# EAGLE library part LTC2935 (library linear-technology)
Ultra-Low Power Supervisor with Power-Fail Output, Selectable Thresholds
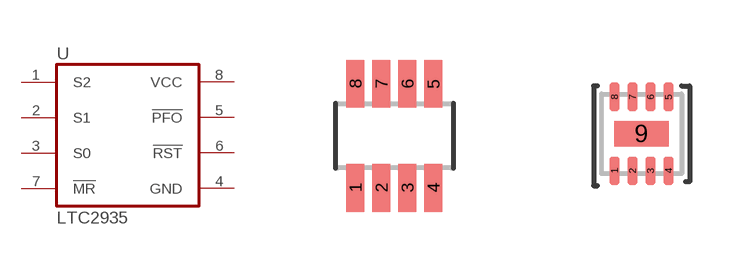
[diagram p56: symbol with the pads of SOT23-8; footprints SOT23-8, DFN8-DC]

Designator prefix U

## LTC2935TS8 (P1I: o)  [SOT23-8]
1  S2  in
2  S1  in
3  S0  in
4  GND  pwr
5  !PFO!  out
6  !RST!  out
7  !MR!  pas
8  VCC  pwr

## LTC2935DC (P1I: o)  [DFN8-DC]
1  VCC  pwr
2  !MR!  pas
3  !RST!  out
4  !PFO!  out
5  GND  pwr
6  S0  in
7  S1  in
8  S2  in
9  GND  pwr

## Footprint SOT23-8 (pad centres in mm)
SOT-23 - DCN 0.65 mm pitch
smd 0.45 x 1.2: 1 -0.975,-1.3; 2 -0.325,-1.3; 3 0.325,-1.3; 4 0.975,-1.3; 5 0.975,1.3; 6 0.325,1.3; 7 -0.325,1.3; 8 -0.975,1.3

## Footprint DFN8-DC (pad centres in mm)
8-Lead Plastic DFN (2mm × 2mm) DC Package (Reference LTC DWG # 05-08-1719 Rev Ø)
smd 0.25 x 0.7: 1 -0.675,-0.925; 2 -0.225,-0.925; 3 0.225,-0.925; 4 0.675,-0.925; 5 0.675,0.925; 6 0.225,0.925; 7 -0.225,0.925; 8 -0.675,0.925
smd 1.37 x 0.64: 9 0,0